# Altium footprint library ICs.PcbLib: 115 footprints (part 7 of 8)
Each footprint in its own frame and in the unit in brackets; x right, y up, seen from the top. Pads: shape width x height; smd on the part's side, far side on the other; paste and mask are expansions set on the pad; w line width, h text height; cw(c..) or ccw(c..) is an arc to the next point about the centre after c.
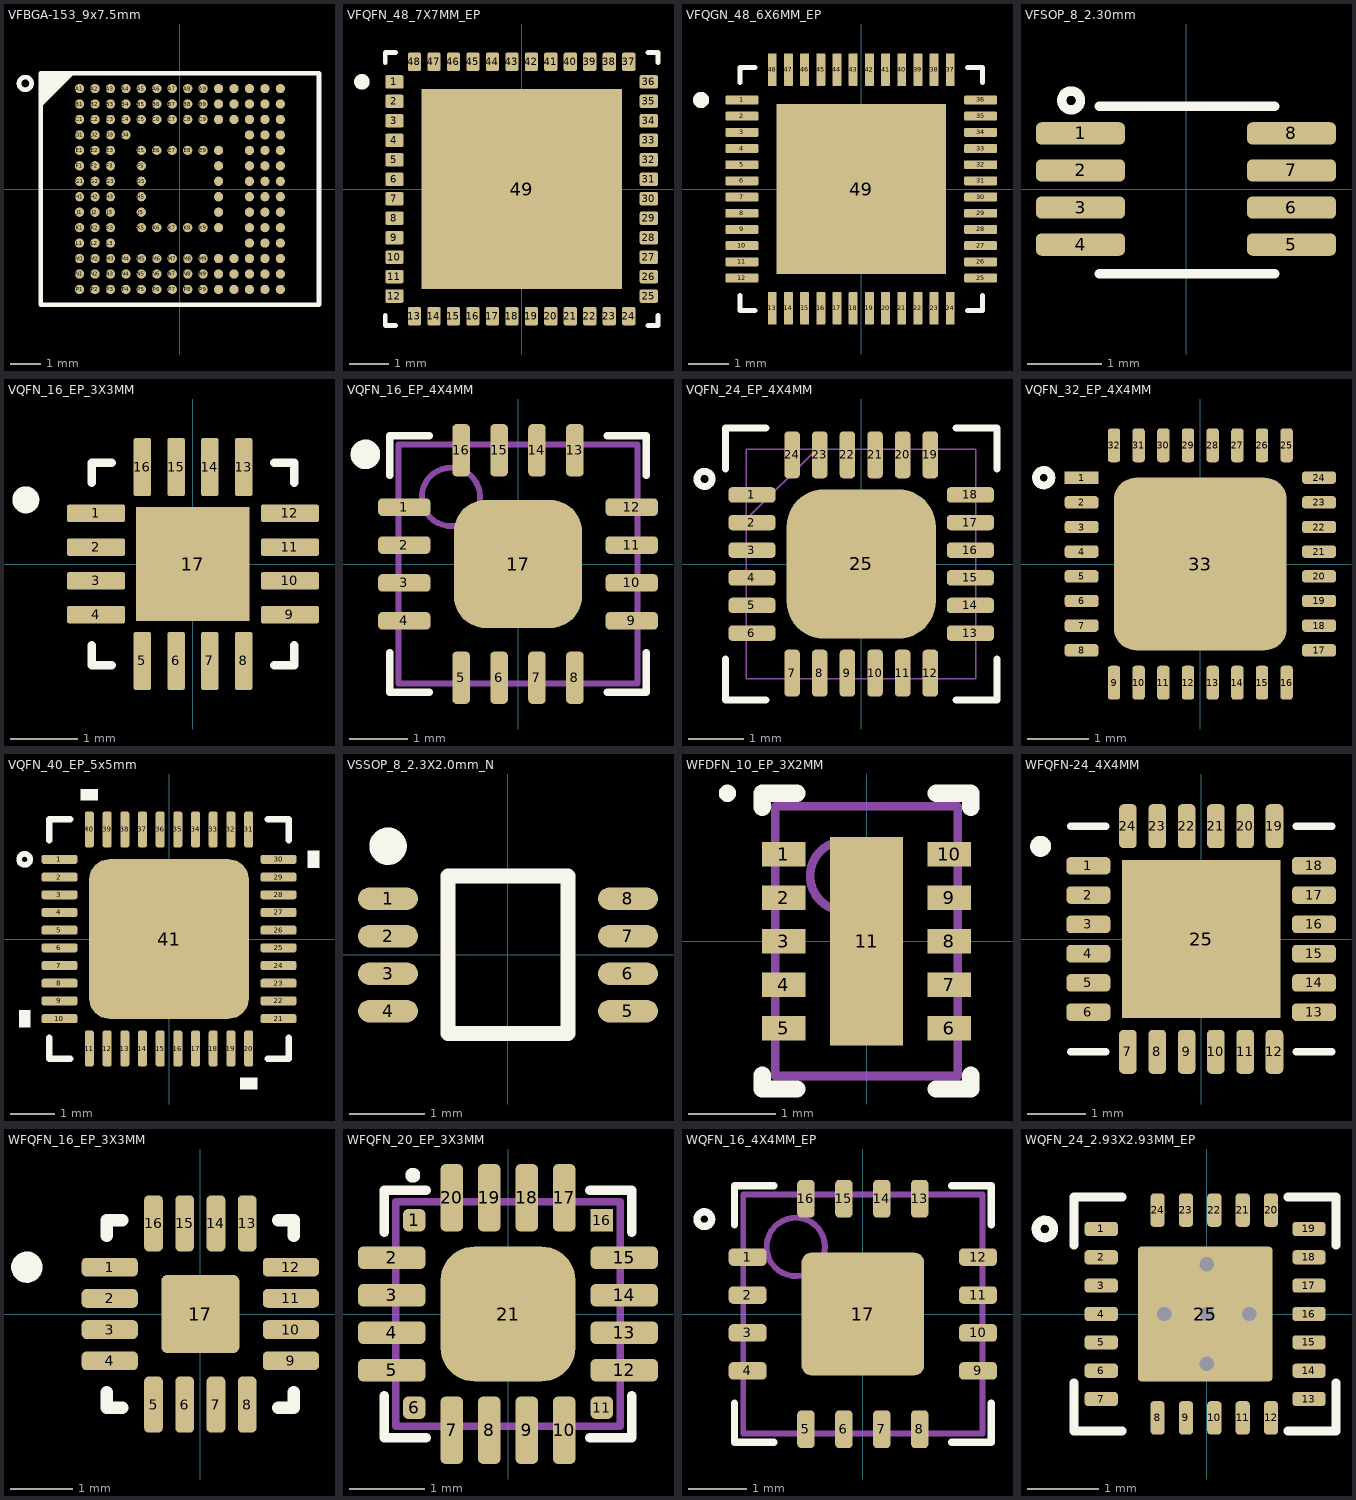
[diagram p6: the footprints below, top view; thin cyan lines are the x and y axes]

## VFBGA-153_9x7.5mm [mm] "/20220418/V-A.Patino"
height 0.8
pads (153):
  round 0.3 smd: A1(-3.25,3.25) A2(-2.75,3.25) A3(-2.25,3.25) A4(-1.75,3.25) A5(-1.25,3.25) A6(-0.75,3.25) A7(-0.25,3.25) A8(0.25,3.25) A9(0.75,3.25) A10(1.25,3.25) A11(1.75,3.25) A12(2.25,3.25) A13(2.75,3.25) A14(3.25,3.25) B1(-3.25,2.75) B2(-2.75,2.75) B3(-2.25,2.75) B4(-1.75,2.75) B5(-1.25,2.75) B6(-0.75,2.75) B7(-0.25,2.75) B8(0.25,2.75) B9(0.75,2.75) B10(1.25,2.75) B11(1.75,2.75) B12(2.25,2.75) B13(2.75,2.75) B14(3.25,2.75) C1(-3.25,2.25) C2(-2.75,2.25) C3(-2.25,2.25) C4(-1.75,2.25) C5(-1.25,2.25) C6(-0.75,2.25) C7(-0.25,2.25) C8(0.25,2.25) C9(0.75,2.25) C10(1.25,2.25) C11(1.75,2.25) C12(2.25,2.25) C13(2.75,2.25) C14(3.25,2.25) D1(-3.25,1.75) D2(-2.75,1.75) D3(-2.25,1.75) D4(-1.75,1.75) D12(2.25,1.75) D13(2.75,1.75) D14(3.25,1.75) E1(-3.25,1.25) E2(-2.75,1.25) E3(-2.25,1.25) E5(-1.25,1.25) E6(-0.75,1.25) E7(-0.25,1.25) E8(0.25,1.25) E9(0.75,1.25) E10(1.25,1.25) E12(2.25,1.25) E13(2.75,1.25) E14(3.25,1.25) F1(-3.25,0.75) F2(-2.75,0.75) F3(-2.25,0.75) F5(-1.25,0.75) F10(1.25,0.75) F12(2.25,0.75) F13(2.75,0.75) F14(3.25,0.75) G1(-3.25,0.25) G2(-2.75,0.25) G3(-2.25,0.25) G5(-1.25,0.25) G10(1.25,0.25) G12(2.25,0.25) G13(2.75,0.25) G14(3.25,0.25) H1(-3.25,-0.25) H2(-2.75,-0.25) H3(-2.25,-0.25) H5(-1.25,-0.25) H10(1.25,-0.25) H12(2.25,-0.25) H13(2.75,-0.25) H14(3.25,-0.25) J1(-3.25,-0.75) J2(-2.75,-0.75) J3(-2.25,-0.75) J5(-1.25,-0.75) J10(1.25,-0.75) J12(2.25,-0.75) J13(2.75,-0.75) J14(3.25,-0.75) K1(-3.25,-1.25) K2(-2.75,-1.25) K3(-2.25,-1.25) K5(-1.25,-1.25) K6(-0.75,-1.25) K7(-0.25,-1.25) K8(0.25,-1.25) K9(0.75,-1.25) K10(1.25,-1.25) K12(2.25,-1.25) K13(2.75,-1.25) K14(3.25,-1.25) L1(-3.25,-1.75) L2(-2.75,-1.75) L3(-2.25,-1.75) L12(2.25,-1.75) L13(2.75,-1.75) L14(3.25,-1.75) M1(-3.25,-2.25) M2(-2.75,-2.25) M3(-2.25,-2.25) M4(-1.75,-2.25) M5(-1.25,-2.25) M6(-0.75,-2.25) M7(-0.25,-2.25) M8(0.25,-2.25) M9(0.75,-2.25) M10(1.25,-2.25) M11(1.75,-2.25) M12(2.25,-2.25) M13(2.75,-2.25) M14(3.25,-2.25) N1(-3.25,-2.75) N2(-2.75,-2.75) N3(-2.25,-2.75) N4(-1.75,-2.75) N5(-1.25,-2.75) N6(-0.75,-2.75) N7(-0.25,-2.75) N8(0.25,-2.75) N9(0.75,-2.75) N10(1.25,-2.75) N11(1.75,-2.75) N12(2.25,-2.75) N13(2.75,-2.75) N14(3.25,-2.75) P1(-3.25,-3.25) P2(-2.75,-3.25) P3(-2.25,-3.25) P4(-1.75,-3.25) P5(-1.25,-3.25) P6(-0.75,-3.25) P7(-0.25,-3.25) P8(0.25,-3.25) P9(0.75,-3.25) P10(1.25,-3.25) P11(1.75,-3.25) P12(2.25,-3.25) P13(2.75,-3.25) P14(3.25,-3.25)
Top Overlay:
  circle w0.152: c-5.004,3.417 r0.204
  region: -3.5,3.75 -4.5,2.75 -4.5,3.75
  lines w0.152: -4.5,2.75 -3.5,3.75 ; -4.5,-3.75 4.5,-3.75 4.5,3.75 -4.5,3.75 -4.5,-3.75
3D body: height 0.8, standoff 0, extent -4.5,-3.75 4.5,3.75

## VFQFN_48_7X7MM_EP [mm] "/20220120/J-E.Pachon"
pads (49):
  rrect25% 0.47x0.34 smd: 1(-3.265,2.75) 2(-3.265,2.25) 3(-3.265,1.75) 4(-3.265,1.25) 5(-3.265,0.75) 6(-3.265,0.25) 7(-3.265,-0.25) 8(-3.265,-0.75) 9(-3.265,-1.25) 10(-3.265,-1.75) 11(-3.265,-2.25) 12(-3.265,-2.75) 25(3.265,-2.75) 26(3.265,-2.25) 27(3.265,-1.75) 28(3.265,-1.25) 29(3.265,-0.75) 30(3.265,-0.25) 31(3.265,0.25) 32(3.265,0.75) 33(3.265,1.25) 34(3.265,1.75) 35(3.265,2.25) 36(3.265,2.75)
  rrect25% 0.34x0.47 smd: 13(-2.75,-3.265) 14(-2.25,-3.265) 15(-1.75,-3.265) 16(-1.25,-3.265) 17(-0.75,-3.265) 18(-0.25,-3.265) 19(0.25,-3.265) 20(0.75,-3.265) 21(1.25,-3.265) 22(1.75,-3.265) 23(2.25,-3.265) 24(2.75,-3.265) 37(2.75,3.265) 38(2.25,3.265) 39(1.75,3.265) 40(1.25,3.265) 41(0.75,3.265) 42(0.25,3.265) 43(-0.25,3.265) 44(-0.75,3.265) 45(-1.25,3.265) 46(-1.75,3.265) 47(-2.25,3.265) 48(-2.75,3.265)
  rect 5.14x5.14 smd paste-4: 49(0,0)
Top Overlay:
  circle w0.2: c-4.1,2.75 r0.1
  lines w0.127: -3.5,-3.24 -3.5,-3.5 -3.24,-3.5 ; -3.5,3.24 -3.5,3.5 -3.24,3.5 ; 3.24,-3.5 3.5,-3.5 3.5,-3.24 ; 3.24,3.5 3.5,3.5 3.5,3.24
Top Paste:
  region: 2.57,-2.57 -2.569,-2.57 -2.569,2.569 2.57,2.569
3D body "ST25RU3993-BQFT--3DModel-STEP-56544.STEP": height 1.01, standoff 0.01, extent -3.5,-3.5 3.5,3.5

## VFQGN_48_6X6MM_EP [mm] "20220422 / E.Naranjo"
pads (49):
  rrect25% 0.81x0.22 smd: 1(-2.95,2.2) 2(-2.95,1.8) 3(-2.95,1.4) 4(-2.95,1) 5(-2.95,0.6) 6(-2.95,0.2) 7(-2.95,-0.2) 8(-2.95,-0.6) 9(-2.95,-1) 10(-2.95,-1.4) 11(-2.95,-1.8) 12(-2.95,-2.2) 25(2.95,-2.2) 26(2.95,-1.8) 27(2.95,-1.4) 28(2.95,-1) 29(2.95,-0.6) 30(2.95,-0.2) 31(2.95,0.2) 32(2.95,0.6) 33(2.95,1) 34(2.95,1.4) 35(2.95,1.8) 36(2.95,2.2)
  rrect25% 0.22x0.81 smd: 13(-2.2,-2.95) 14(-1.8,-2.95) 15(-1.4,-2.95) 16(-1,-2.95) 17(-0.6,-2.95) 18(-0.2,-2.95) 19(0.2,-2.95) 20(0.6,-2.95) 21(1,-2.95) 22(1.4,-2.95) 23(1.8,-2.95) 24(2.2,-2.95) 37(2.2,2.95) 38(1.8,2.95) 39(1.4,2.95) 40(1,2.95) 41(0.6,2.95) 42(0.2,2.95) 43(-0.2,2.95) 44(-0.6,2.95) 45(-1,2.95) 46(-1.4,2.95) 47(-1.8,2.95) 48(-2.2,2.95)
  rect 4.2x4.2 smd paste-3: 49(0,0)
Top Overlay:
  circle w0.2: c-3.96,2.2 r0.1
  lines w0.127: -3,-2.63 -3,-3 -2.63,-3 ; -3,2.63 -3,3 -2.63,3 ; 2.63,-3 3,-3 3,-2.63 ; 2.63,3 3,3 3,2.63
Top Paste:
  region: 1.71,-1.71 0.39,-1.71 0.39,-0.39 1.71,-0.39
  region: -0.39,-1.71 -1.71,-1.71 -1.71,-0.39 -0.39,-0.39
  region: 1.71,0.39 0.39,0.39 0.39,1.71 1.71,1.71
  region: -0.39,0.39 -1.71,0.39 -1.71,1.71 -0.39,1.71
3D body "P9242-RNDGI8.STEP": height 1.01, standoff 0.01, extent -2.98,-2.999 3.02,3.001

## VFSOP_8_2.30mm [mm] "US8 / 20190225 / C-A.Serna.A"
pads (8):
  rrect50% 1.2x0.3 smd: 1(-1.422,0.75) 2(-1.422,0.25) 3(-1.422,-0.25) 4(-1.422,-0.75) 5(1.422,-0.75) 6(1.422,-0.25) 7(1.422,0.25) 8(1.422,0.75)
Top Overlay:
  circle w0.127: c-1.549,1.194 r0.127
  lines w0.127: -1.168,-1.143 1.194,-1.143 ; -1.168,1.118 1.194,1.118
3D body "DCU8-M.step": height 0.89, standoff 0, extent -1.6,-1.054 1.6,1.054

## VQFN_16_EP_3X3MM [mm] "/20220107/J-E.Pachon"
pads (17):
  rrect25% 0.86x0.26 smd: 1(-1.435,0.75) 2(-1.435,0.25) 3(-1.435,-0.25) 4(-1.435,-0.75) 9(1.435,-0.75) 10(1.435,-0.25) 11(1.435,0.25) 12(1.435,0.75)
  rrect25% 0.26x0.86 smd: 5(-0.75,-1.435) 6(-0.25,-1.435) 7(0.25,-1.435) 8(0.75,-1.435) 13(0.75,1.435) 14(0.25,1.435) 15(-0.25,1.435) 16(-0.75,1.435)
  rect 1.68x1.68 smd paste-2: 17(0,0)
Top Overlay:
  circle w0.2: c-2.475,0.95 r0.1
  lines w0.127: -1.5,-1.2 -1.5,-1.5 -1.2,-1.5 ; -1.5,1.2 -1.5,1.5 -1.2,1.5 ; 1.2,-1.5 1.5,-1.5 1.5,-1.2 ; 1.2,1.5 1.5,1.5 1.5,1.2
Top Paste:
  region: 0.53,-0.53 -0.53,-0.53 -0.53,0.53 0.53,0.53
3D body "BQ24074RGTR.STEP": height 1, standoff 0, extent -1.5,-1.5 1.5,1.5

## VQFN_16_EP_4X4MM [mm] "16-VQFN EP / 20210809 / N-A.Potosi"
pads (17):
  rrect50% 0.9x0.3 smd: 1(-1.95,0.975) 2(-1.95,0.325) 3(-1.95,-0.325) 4(-1.95,-0.975) 9(1.95,-0.975) 10(1.95,-0.325) 11(1.95,0.325) 12(1.95,0.975)
  rrect50% 0.3x0.9 smd: 5(-0.975,-1.95) 6(-0.325,-1.95) 7(0.325,-1.95) 8(0.975,-1.95) 13(0.975,1.95) 14(0.325,1.95) 15(-0.325,1.95) 16(-0.975,1.95)
  rrect50% 2.2x2.2 smd: 17(0,0)
Top Overlay:
  circle w0.254: c-2.616,1.88 r0.127
  lines w0.127: -2.2,-1.525 -2.2,-2.2 -1.525,-2.2 ; -2.2,1.525 -2.2,2.2 -1.525,2.2 ; 1.525,-2.2 2.2,-2.2 2.2,-1.525 ; 1.525,2.2 2.2,2.2 2.2,1.525
Mechanical 1:
  circle w0.1: c-1.15,1.15 r0.5
  lines w0.1: -2.05,-2.05 2.05,-2.05 2.05,2.05 -2.05,2.05 -2.05,-2.05
3D body: height 1, standoff 0, extent -2.05,-2.05 2.05,2.05

## VQFN_24_EP_4X4MM [mm] "24-WFQFN EP / 20230809 / N-A.Potosi"
pads (25):
  rrect50% 0.85x0.28 smd: 1(-1.975,1.25) 2(-1.975,0.75) 3(-1.975,0.25) 4(-1.975,-0.25) 5(-1.975,-0.75) 6(-1.975,-1.25) 13(1.975,-1.25) 14(1.975,-0.75) 15(1.975,-0.25) 16(1.975,0.25) 17(1.975,0.75) 18(1.975,1.25)
  rrect50% 0.28x0.85 smd: 7(-1.25,-1.975) 8(-0.75,-1.975) 9(-0.25,-1.975) 10(0.25,-1.975) 11(0.75,-1.975) 12(1.25,-1.975) 19(1.25,1.975) 20(0.75,1.975) 21(0.25,1.975) 22(-0.25,1.975) 23(-0.75,1.975) 24(-1.25,1.975)
  rrect50% 2.7x2.7 smd: 25(0,0)
Top Overlay:
  circle w0.127: c-2.833,1.538 r0.137
  lines w0.127: -2.456,-1.718 -2.456,-2.456 -1.718,-2.456 ; -2.456,1.718 -2.456,2.456 -1.718,2.456 ; 1.718,-2.456 2.456,-2.456 2.456,-1.718 ; 1.718,2.456 2.456,2.456 2.456,1.718
Mechanical 1:
  lines w0.025: -2.075,0.805 -0.805,2.075 ; -2.075,-2.075 2.075,-2.075 2.075,2.075 -2.075,2.075 -2.075,-2.075
3D body "User Library-VQFN-24.step": height 1.06, standoff -0.01, extent -2.052,-2.057 2.048,2.043

## VQFN_32_EP_4X4MM [mm] "/20230725/J-A.Sepulveda"
pads (33):
  rect 0.55x0.2 smd: 1(-1.925,1.4)
  rrect50% 0.55x0.2 smd: 2(-1.925,1) 3(-1.925,0.6) 4(-1.925,0.2) 5(-1.925,-0.2) 6(-1.925,-0.6) 7(-1.925,-1) 8(-1.925,-1.4) 17(1.925,-1.4) 18(1.925,-1) 19(1.925,-0.6) 20(1.925,-0.2) 21(1.925,0.2) 22(1.925,0.6) 23(1.925,1) 24(1.925,1.4)
  rrect50% 0.2x0.55 smd: 9(-1.4,-1.925) 10(-1,-1.925) 11(-0.6,-1.925) 12(-0.2,-1.925) 13(0.2,-1.925) 14(0.6,-1.925) 15(1,-1.925) 16(1.4,-1.925) 25(1.4,1.925) 26(1,1.925) 27(0.6,1.925) 28(0.2,1.925) 29(-0.2,1.925) 30(-0.6,1.925) 31(-1,1.925) 32(-1.4,1.925)
  rrect25% 2.8x2.8 smd: 33(0,0)
Top Overlay:
  circle w0.127: c-2.54,1.4 r0.125
3D body "RSM0032B.stp": height 1, standoff 0, extent -2,-2 2,2

## VQFN_40_EP_5x5mm [mil] "/20230727/J-A.Sepulveda"
pads (41):
  rrect50% 32x8 smd: 1(-97.5,70.87) 2(-97.5,55.12) 3(-97.5,39.37) 4(-97.5,23.62) 5(-97.5,7.87) 6(-97.5,-7.87) 7(-97.5,-23.62) 8(-97.5,-39.37) 9(-97.5,-55.12) 10(-97.5,-70.87) 21(97.5,-70.87) 22(97.5,-55.12) 23(97.5,-39.37) 24(97.5,-23.62) 25(97.5,-7.87) 26(97.5,7.87) 27(97.5,23.62) 28(97.5,39.37) 29(97.5,55.12) 30(97.5,70.87)
  rrect50% 8x32 smd: 11(-70.87,-97.5) 12(-55.12,-97.5) 13(-39.37,-97.5) 14(-23.62,-97.5) 15(-7.87,-97.5) 16(7.87,-97.5) 17(23.62,-97.5) 18(39.37,-97.5) 19(55.12,-97.5) 20(70.87,-97.5) 31(70.87,97.5) 32(55.12,97.5) 33(39.37,97.5) 34(23.62,97.5) 35(7.87,97.5) 36(-7.87,97.5) 37(-23.62,97.5) 38(-39.37,97.5) 39(-55.12,97.5) 40(-70.87,97.5)
  rrect25% 142x142 smd: 41(0,0)
Top Overlay:
  circle w5: c-128.5,70.87 r4.92
  region: -63.37,123.5 -78.37,123.5 -78.37,133.5 -63.37,133.5
  region: 123.5,78.37 133.5,78.37 133.5,63.37 123.5,63.37
  region: 78.37,-123.5 63.37,-123.5 63.37,-133.5 78.37,-133.5
  region: -123.5,-63.37 -133.5,-63.37 -133.5,-78.37 -123.5,-78.37
  lines w6: -106.5,-87.97 -106.5,-106.5 -87.97,-106.5 ; -106.5,87.97 -106.5,106.5 -87.97,106.5 ; 87.97,-106.5 106.5,-106.5 106.5,-87.97 ; 87.97,106.5 106.5,106.5 106.5,87.97
3D body "VQFN40-RKP_TEX.step": height 39.09, standoff 0, extent -101.5,-101.5 101.5,101.5

## VSSOP_8_2.3X2.0mm_N [mm] "US8 / 20190912/ C-D Viveros"
pads (8):
  oval 0.8x0.3 smd: 1(-1.6,0.75) 2(-1.6,0.25) 3(-1.6,-0.25) 4(-1.6,-0.75) 5(1.6,-0.75) 6(1.6,-0.25) 7(1.6,0.25) 8(1.6,0.75)
Top Overlay:
  circle w0.25: c-1.6,1.45 r0.125
  lines w0.2: -0.8,-1.05 -0.8,1.05 0.8,1.05 0.8,-1.05 -0.8,-1.05
3D body "DCU0008A.stp": height 0.9, standoff 0, extent -1.561,-1 1.561,1

## WFDFN_10_EP_3X2MM [mm] "10-WSON / 20210809 /C-D Viveros"
pads (11):
  rect 0.5x0.28 smd paste-14 mask+0.07: 1(-0.95,1) 2(-0.95,0.5) 3(-0.95,0) 4(-0.95,-0.5) 5(-0.95,-1) 6(0.95,-1) 7(0.95,-0.5) 8(0.95,0) 9(0.95,0.5) 10(0.95,1)
  rect 0.84x2.4 smd paste-0.42 mask+0.07: 11(0,0)
Top Overlay:
  circle w0.1: c-1.6,1.7 r0.05
  lines w0.2: -1.2,-1.54 -1.2,-1.7 -0.8,-1.7 ; -1.2,1.54 -1.2,1.7 -0.8,1.7 ; 0.8,-1.7 1.2,-1.7 1.2,-1.54 ; 0.8,1.7 1.2,1.7 1.2,1.54
Top Paste:
  rectangle: 0.7,0.875 1.2,1.125
  rectangle: 0.7,0.375 1.2,0.625
  rectangle: 0.7,-0.125 1.2,0.125
  rectangle: 0.7,-0.625 1.2,-0.375
  rectangle: 0.7,-1.125 1.2,-0.875
  rectangle: -1.2,-1.125 -0.7,-0.875
  rectangle: -1.2,-0.625 -0.7,-0.375
  rectangle: -1.2,0.875 -0.7,1.125
  rectangle: -1.2,0.375 -0.7,0.625
  region: 0.32,1.1 -0.32,1.1 -0.32,0.5 0.32,0.5
  rectangle: -0.32,-0.3 0.32,0.3
  rectangle: -0.32,-1.1 0.32,-0.5
  rectangle: -1.2,-0.125 -0.7,0.125
Mechanical 13:
  circle w0.1: c-0.25,0.75 r0.4
  lines w0.1: -1.05,-1.55 1.05,-1.55 1.05,1.55 -1.05,1.55 -1.05,-1.55
3D body: height 0.8, standoff 0, extent -1.05,-1.55 1.05,1.55

## WFQFN-24_4X4MM [mm] "20220518 / E.Naranjo"
pads (25):
  rrect50% 0.75x0.3 smd: 1(-1.925,1.25) 2(-1.925,0.75) 3(-1.925,0.25) 4(-1.925,-0.25) 5(-1.925,-0.75) 6(-1.925,-1.25) 13(1.925,-1.25) 14(1.925,-0.75) 15(1.925,-0.25) 16(1.925,0.25) 17(1.925,0.75) 18(1.925,1.25)
  rrect50% 0.3x0.75 smd: 7(-1.25,-1.925) 8(-0.75,-1.925) 9(-0.25,-1.925) 10(0.25,-1.925) 11(0.75,-1.925) 12(1.25,-1.925) 19(1.25,1.925) 20(0.75,1.925) 21(0.25,1.925) 22(-0.25,1.925) 23(-0.75,1.925) 24(-1.25,1.925)
  rect 2.7x2.7 smd: 25(0,0)
Top Overlay:
  circle w0.2: c-2.739,1.581 r0.079
  lines w0.127: -2.225,-1.925 -1.625,-1.925 ; -2.225,1.925 -1.625,1.925 ; 1.625,-1.925 2.225,-1.925 ; 1.625,1.925 2.225,1.925
3D body "AP33771DKZ-13.stp": height 0.9, standoff 0, extent -2,-2 2,2

## WFQFN_16_EP_3X3MM [mm] "TQFN_16_3x3/20210809/V-A.Patino"
pads (17):
  rrect50% 0.9x0.3 smd: 1(-1.451,0.75) 2(-1.451,0.25) 3(-1.451,-0.25) 4(-1.451,-0.75) 9(1.451,-0.75) 10(1.451,-0.25) 11(1.451,0.25) 12(1.451,0.75)
  rrect50% 0.3x0.9 smd: 5(-0.75,-1.451) 6(-0.25,-1.451) 7(0.25,-1.451) 8(0.75,-1.451) 13(0.75,1.451) 14(0.25,1.451) 15(-0.25,1.451) 16(-0.75,1.451)
  rrect15% 1.25x1.25 smd: 17(0,0)
Top Overlay:
  circle w0.25: c-2.779,0.75 r0.125
  lines w0.2: -1.5,-1.25 -1.5,-1.5 -1.25,-1.5 ; -1.5,1.25 -1.5,1.5 -1.25,1.5 ; 1.25,-1.5 1.5,-1.5 1.5,-1.25 ; 1.25,1.5 1.5,1.5 1.5,1.25
3D body "IC_Maxim_Integrated_MAX98357AETE+_eec.STEP": height 0.8, standoff 0, extent -1.503,-1.503 1.5,1.503

## WFQFN_20_EP_3X3MM [mm] "QFN_20/ 20210809/ C-D Viveros"
pads (21):
  rrect50% 0.3x0.3 smd: 1(-1.25,1.25) 6(-1.25,-1.25) 11(1.25,-1.25)
  rrect50% 0.9x0.3 smd: 2(-1.55,0.75) 3(-1.55,0.25) 4(-1.55,-0.25) 5(-1.55,-0.75) 12(1.55,-0.75) 13(1.55,-0.25) 14(1.55,0.25) 15(1.55,0.75)
  rrect50% 0.3x0.9 smd: 7(-0.75,-1.55) 8(-0.25,-1.55) 9(0.25,-1.55) 10(0.75,-1.55) 17(0.75,1.55) 18(0.25,1.55) 19(-0.25,1.55) 20(-0.75,1.55)
  rect 0.3x0.3 smd: 16(1.25,1.25)
  rrect50% 1.8x1.8 smd: 21(0,0)
Top Overlay:
  circle w0.1: c-1.27,1.85 r0.05
  lines w0.127: -1.65,-1.092 -1.65,-1.65 -1.092,-1.65 ; -1.65,1.092 -1.65,1.65 -1.092,1.65 ; 1.092,-1.65 1.65,-1.65 1.65,-1.092 ; 1.092,1.65 1.65,1.65 1.65,1.092
Mechanical 1:
  lines w0.1: -1.5,-1.5 -1.5,1.5 1.5,1.5 1.5,-1.5 -1.5,-1.5
3D body: height 0.8, standoff 0, extent -1.5,-1.5 1.5,1.5

## WQFN_16_4X4MM_EP [mm] "16-QFN/20190329/J-P.Vargas.A"
pads (17):
  rrect50% 0.65x0.3 smd: 1(-1.975,0.975) 2(-1.975,0.325) 3(-1.975,-0.325) 4(-1.975,-0.975) 9(1.975,-0.975) 10(1.975,-0.325) 11(1.975,0.325) 12(1.975,0.975)
  rrect50% 0.3x0.65 smd: 5(-0.975,-1.975) 6(-0.325,-1.975) 7(0.325,-1.975) 8(0.975,-1.975) 13(0.975,1.975) 14(0.325,1.975) 15(-0.325,1.975) 16(-0.975,1.975)
  rrect15% 2.1x2.1 smd: 17(0,0)
Top Overlay:
  circle w0.127: c-2.718,1.626 r0.125
  lines w0.127: -2.2,-1.525 -2.2,-2.2 -1.525,-2.2 ; 1.525,-2.2 2.2,-2.2 2.2,-1.525 ; 1.525,2.2 2.2,2.2 2.2,1.525 ; -2.2,2.2 -2.2,1.525 -2.2,2.2 ; -2.2,2.2 -1.525,2.2 -2.2,2.2
Top Paste:
  rectangle: -0.95,-0.95 0.95,0.95
Mechanical 1:
  circle w0.1: c-1.15,1.15 r0.5
  lines w0.1: -2.05,-2.05 -2.05,2.05 2.05,2.05 2.05,-2.05 -2.05,-2.05
3D body: height 0.8, standoff 0, extent -2.05,-2.05 2.05,2.05

## WQFN_24_2.93X2.93MM_EP [mm] "24-QFN / 040726 / J.Jaramillo"
pads (30):
  rrect50% 0.47x0.2 smd: 1(-1.49,1.2) 2(-1.49,0.8) 3(-1.49,0.4) 4(-1.49,0) 5(-1.49,-0.4) 6(-1.49,-0.8) 7(-1.49,-1.2) 13(1.44,-1.2) 14(1.44,-0.8) 15(1.44,-0.4) 16(1.44,0) 17(1.44,0.4) 18(1.44,0.8) 19(1.44,1.2)
  rrect50% 0.2x0.47 smd: 8(-0.695,-1.465) 9(-0.295,-1.465) 10(0.105,-1.465) 11(0.505,-1.465) 12(0.905,-1.465) 20(0.905,1.465) 21(0.505,1.465) 22(0.105,1.465) 23(-0.295,1.465) 24(-0.695,1.465)
  rrect5% 1.9x1.9 smd: 25(-0.025,0)
  round 0.5 hole 0.203: ""(-0.6,0) ""(0,-0.7) ""(0,0) ""(0,0.7) ""(0.6,0)
Top Overlay:
  circle w0.127: c-2.286,1.2 r0.125
  lines w0.127: -1.872,-0.975 -1.872,-1.65 -1.197,-1.65 ; -1.872,0.975 -1.872,1.65 -1.197,1.65 ; 1.146,-1.65 1.821,-1.65 1.821,-0.975 ; 1.146,1.65 1.821,1.65 1.821,0.975
Top Paste:
  region: -0.83,-0.855 -0.88,-0.805 -0.88,0.805 -0.83,0.855 0.78,0.855 0.83,0.805 0.83,-0.805 0.78,-0.855
Top Solder:
  circle w0.127: c-2.286,1.2 r0.125
3D body "DRV8311HRRWR--3DModel-STEP-56544.STEP": height 0.8, standoff 0, extent -1.527,-1.502 1.473,1.498